# EAGLE library part FFC12_1-1734592-2 (library JOSHUA)
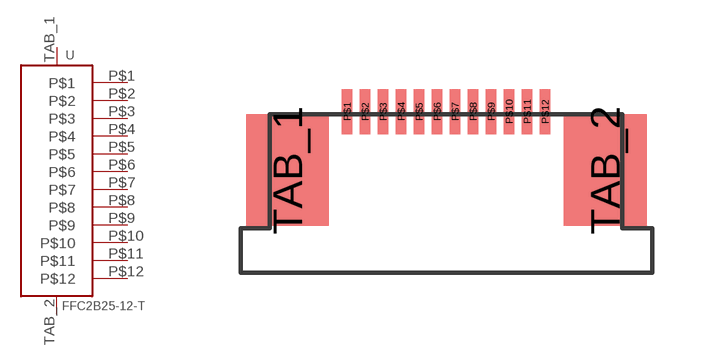
[diagram p3: symbol with the pads of FFC12_1-1734592-2; footprint FFC12_1-1734592-2]

Designator prefix -

## FFC12_1-1734592-2  [FFC12_1-1734592-2]
P$1  P$1
P$2  P$2
P$3  P$3
P$4  P$4
P$5  P$5
P$6  P$6
P$7  P$7
P$8  P$8
P$9  P$9
P$10  P$10
P$11  P$11
P$12  P$12
TAB_1  TAB
TAB_2  TAB2

## Footprint FFC12_1-1734592-2 (pad centres in mm)
smd 0.3 x 1.25: P$1 -2.75,-0.625; P$2 -2.25,-0.625; P$3 -1.75,-0.625; P$4 -1.25,-0.625; P$5 -0.75,-0.625; P$6 -0.25,-0.625; P$7 0.25,-0.625; P$8 0.75,-0.625; P$9 1.25,-0.625; P$10 1.75,-0.625; P$11 2.25,-0.625; P$12 2.75,-0.625
smd 2.3 x 3.1: TAB_1 -4.403,-2.252; TAB_2 4.417,-2.252